# EAGLE library part FH34SRJ-10S (library hirose_FH34SRJ)
0.5mm Pitch, 1.0mm above the board Top and Top/Bottom Contact, Back-Flip Actuator Flexible Printed Circuit & Flexible Flat Cable ZIF Connectors
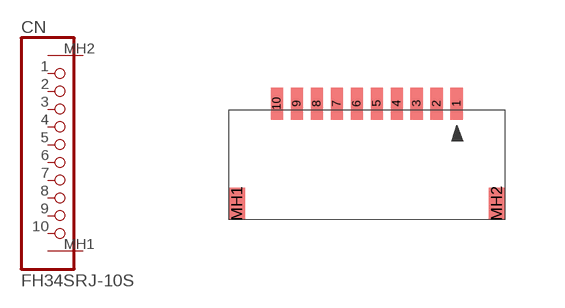
[diagram p1: symbol with the pads of FH34SRJ-10S; footprint FH34SRJ-10S]

Designator prefix CN

## FH34SRJ-10S  [FH34SRJ-10S]
1  1  pas
2  2  pas
3  3  pas
4  4  pas
5  5  pas
6  6  pas
7  7  pas
8  8  pas
9  9  pas
10  10  pas
MH1  MH1  pas
MH2  MH2  pas

## Footprint FH34SRJ-10S (pad centres in mm)
smd 0.3 x 0.8: 1 5.3,2.9; 2 4.8,2.9; 3 4.3,2.9; 4 3.8,2.9; 5 3.3,2.9; 6 2.8,2.9; 7 2.3,2.9; 8 1.8,2.9; 9 1.3,2.9; 10 0.8,2.9
smd 0.4 x 0.8: MH1 -0.2,0.4; MH2 6.3,0.4